# EAGLE library part LM380 (library roombarmato_eagle_lib)
Low Voltage Audio Power Amplifier Source: http://cache.national.com/ds/LM/LM386.pdf
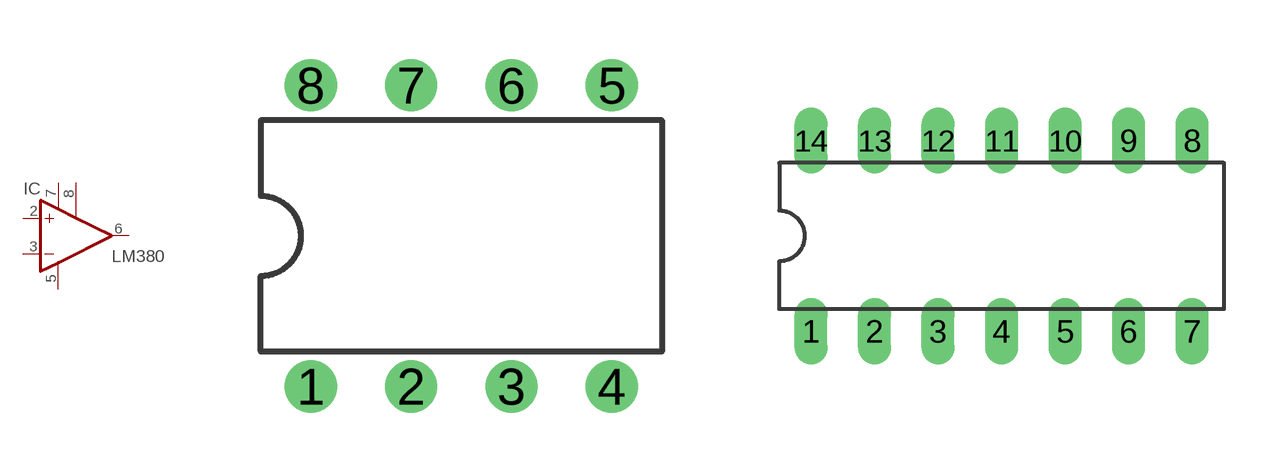
[diagram p3: symbol with the pads of DIL08; footprints DIL08, DIL14]

Designator prefix IC

## LM3801N, LM3803N, LM3804N  [DIL08]
2  +IN  in
3  -IN  in
5  GND  pwr
6  OUT  out
7  VSS  pwr
8  BYPASS  pas

## LM380  [DIL14]
1  BYPASS  pas
2  +IN  in
3  GND  pwr
4  GND  pwr
5  GND  pwr
6  -IN  in
7  GND  pwr
8  OUT  out
10  GND  pwr
11  GND  pwr
12  GND  pwr
14  VSS  pwr

## Footprint DIL08 (pad centres in mm)
Dual In Line Package
drill 0.813 pad 1.27: 1 -3.81,-3.81; 2 -1.27,-3.81; 3 1.27,-3.81; 4 3.81,-3.81; 5 3.81,3.81; 6 1.27,3.81; 7 -1.27,3.81; 8 -3.81,3.81

## Footprint DIL14 (pad centres in mm)
Dual In Line Package
drill 0.813 long: 1 -7.62,-3.81; 2 -5.08,-3.81; 3 -2.54,-3.81; 4 0,-3.81; 5 2.54,-3.81; 6 5.08,-3.81; 7 7.62,-3.81; 8 7.62,3.81; 9 5.08,3.81; 10 2.54,3.81; 11 0,3.81; 12 -2.54,3.81; 13 -5.08,3.81; 14 -7.62,3.81